# Altium schematic symbol library R E24 0603 Yageo RC Series.SchLib: 174 symbols (part 2 of 3)
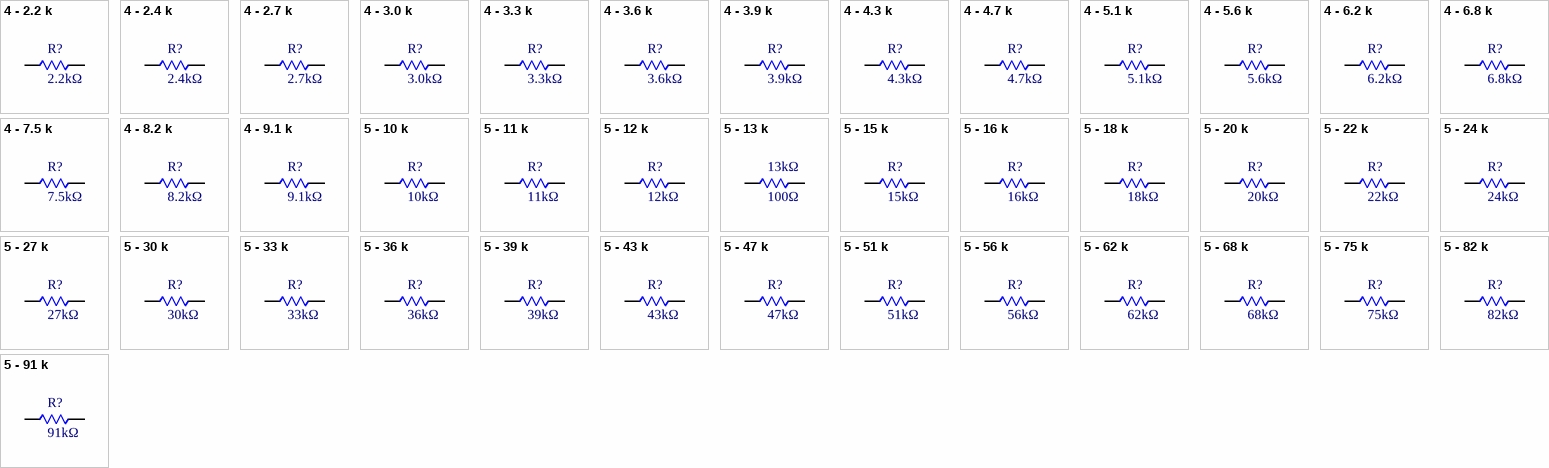
[diagram p5: symbols 4 - 2.2 k to 5 - 91 k]

## 4 - 3.6 k
designator R?, comment 3.6kΩ
RES SMD 3.6K OHM 5% 1/10W 0603; MFG PN: RC0603JR-073K6L; MFG: Yageo; Power: 0.1W; Temp Coeff: ±100ppm/°C; Op Temp: -55°C ~ 155°C; Current (max): 5.27 mA; Voltage (max): 19.0 V; Resistance: 3.6 kOhms; Digi-Key PN: 311-3.6KGRCT-ND; Height: 0.55mm; Package: 0603; Composition: Thick Film; Tolerance: 5%; Series: RC; Mounting Type: Surface Mount; ComponentLink2Description: Datasheet; ComponentLink2URL: https://www.yageo.com/upload/media/product/productsearch/datasheet/rchip/PYu-RC_Group_51_RoHS_L_11.pdf
footprint 0603 - R (from Yageo)
pins: 1, 2

## 4 - 3.9 k
designator R?, comment 3.9kΩ
RES SMD 3.9K OHM 5% 1/10W 0603; MFG PN: RC0603JR-073K9L; MFG: Yageo; Power: 0.1W; Temp Coeff: ±100ppm/°C; Op Temp: -55°C ~ 155°C; Current (max): 5.06 mA; Voltage (max): 19.7 V; Resistance: 3.9 kOhms; Digi-Key PN: 311-3.9KGRCT-ND; Height: 0.55mm; Package: 0603; Composition: Thick Film; Tolerance: 5%; Series: RC; Mounting Type: Surface Mount; ComponentLink2Description: Datasheet; ComponentLink2URL: https://www.yageo.com/upload/media/product/productsearch/datasheet/rchip/PYu-RC_Group_51_RoHS_L_11.pdf
footprint 0603 - R (from Yageo)
pins: 1, 2

## 4 - 4.3 k
designator R?, comment 4.3kΩ
RES SMD 4.3K OHM 5% 1/10W 0603; MFG PN: RC0603JR-074K3L; MFG: Yageo; Power: 0.1W; Temp Coeff: ±100ppm/°C; Op Temp: -55°C ~ 155°C; Current (max): 4.82 mA; Voltage (max): 20.7 V; Resistance: 4.3 kOhms; Digi-Key PN: 311-4.3KGRCT-ND; Height: 0.55mm; Package: 0603; Composition: Thick Film; Tolerance: 5%; Series: RC; Mounting Type: Surface Mount; ComponentLink2Description: Datasheet; ComponentLink2URL: https://www.yageo.com/upload/media/product/productsearch/datasheet/rchip/PYu-RC_Group_51_RoHS_L_11.pdf
footprint 0603 - R (from Yageo)
pins: 1, 2

## 4 - 4.7 k
designator R?, comment 4.7kΩ
RES SMD 4.7K OHM 5% 1/10W 0603; MFG PN: RC0603JR-074K7L; MFG: Yageo; Power: 0.1W; Temp Coeff: ±100ppm/°C; Op Temp: -55°C ~ 155°C; Current (max): 4.61 mA; Voltage (max): 21.7 V; Resistance: 4.7 kOhms; Digi-Key PN: 311-4.7KGRCT-ND; Height: 0.55mm; Package: 0603; Composition: Thick Film; Tolerance: 5%; Series: RC; Mounting Type: Surface Mount; ComponentLink2Description: Datasheet; ComponentLink2URL: https://www.yageo.com/upload/media/product/productsearch/datasheet/rchip/PYu-RC_Group_51_RoHS_L_11.pdf
footprint 0603 - R (from Yageo)
pins: 1, 2

## 4 - 5.1 k
designator R?, comment 5.1kΩ
RES SMD 5.1K OHM 5% 1/10W 0603; MFG PN: RC0603JR-075K1L; MFG: Yageo; Power: 0.1W; Temp Coeff: ±100ppm/°C; Op Temp: -55°C ~ 155°C; Current (max): 4.43 mA; Voltage (max): 22.6 V; Resistance: 5.1 kOhms; Digi-Key PN: 311-5.1KGRCT-ND; Height: 0.55mm; Package: 0603; Composition: Thick Film; Tolerance: 5%; Series: RC; Mounting Type: Surface Mount; ComponentLink2Description: Datasheet; ComponentLink2URL: https://www.yageo.com/upload/media/product/productsearch/datasheet/rchip/PYu-RC_Group_51_RoHS_L_11.pdf
footprint 0603 - R (from Yageo)
pins: 1, 2

## 4 - 5.6 k
designator R?, comment 5.6kΩ
RES SMD 5.6K OHM 5% 1/10W 0603; MFG PN: RC0603JR-075K6L; MFG: Yageo; Power: 0.1W; Temp Coeff: ±100ppm/°C; Op Temp: -55°C ~ 155°C; Current (max): 4.23 mA; Voltage (max): 23.7 V; Resistance: 5.6 kOhms; Digi-Key PN: 311-5.6KGRCT-ND; Height: 0.55mm; Package: 0603; Composition: Thick Film; Tolerance: 5%; Series: RC; Mounting Type: Surface Mount; ComponentLink2Description: Datasheet; ComponentLink2URL: https://www.yageo.com/upload/media/product/productsearch/datasheet/rchip/PYu-RC_Group_51_RoHS_L_11.pdf
footprint 0603 - R (from Yageo)
pins: 1, 2

## 4 - 6.2 k
designator R?, comment 6.2kΩ
RES SMD 6.2K OHM 5% 1/10W 0603; MFG PN: RC0603JR-076K2L; MFG: Yageo; Power: 0.1W; Temp Coeff: ±100ppm/°C; Op Temp: -55°C ~ 155°C; Current (max): 4.02 mA; Voltage (max): 24.9 V; Resistance: 6.2 kOhms; Digi-Key PN: 311-6.2KGRCT-ND; Height: 0.55mm; Package: 0603; Composition: Thick Film; Tolerance: 5%; Series: RC; Mounting Type: Surface Mount; ComponentLink2Description: Datasheet; ComponentLink2URL: https://www.yageo.com/upload/media/product/productsearch/datasheet/rchip/PYu-RC_Group_51_RoHS_L_11.pdf
footprint 0603 - R (from Yageo)
pins: 1, 2

## 4 - 6.8 k
designator R?, comment 6.8kΩ
RES SMD 6.8K OHM 5% 1/10W 0603; MFG PN: RC0603JR-076K8L; MFG: Yageo; Power: 0.1W; Temp Coeff: ±100ppm/°C; Op Temp: -55°C ~ 155°C; Current (max): 3.83 mA; Voltage (max): 26.1 V; Resistance: 6.8 kOhms; Digi-Key PN: 311-6.8KGRCT-ND; Height: 0.55mm; Package: 0603; Composition: Thick Film; Tolerance: 5%; Series: RC; Mounting Type: Surface Mount; ComponentLink2Description: Datasheet; ComponentLink2URL: https://www.yageo.com/upload/media/product/productsearch/datasheet/rchip/PYu-RC_Group_51_RoHS_L_11.pdf
footprint 0603 - R (from Yageo)
pins: 1, 2

## 4 - 7.5 k
designator R?, comment 7.5kΩ
RES SMD 7.5K OHM 5% 1/10W 0603; MFG PN: RC0603JR-077K5L; MFG: Yageo; Power: 0.1W; Temp Coeff: ±100ppm/°C; Op Temp: -55°C ~ 155°C; Current (max): 3.65 mA; Voltage (max): 27.4 V; Resistance: 7.5 kOhms; Digi-Key PN: 311-7.5KGRCT-ND; Height: 0.55mm; Package: 0603; Composition: Thick Film; Tolerance: 5%; Series: RC; Mounting Type: Surface Mount; ComponentLink2Description: Datasheet; ComponentLink2URL: https://www.yageo.com/upload/media/product/productsearch/datasheet/rchip/PYu-RC_Group_51_RoHS_L_11.pdf
footprint 0603 - R (from Yageo)
pins: 1, 2

## 4 - 8.2 k
designator R?, comment 8.2kΩ
RES SMD 8.2K OHM 5% 1/10W 0603; MFG PN: RC0603JR-078K2L; MFG: Yageo; Power: 0.1W; Temp Coeff: ±200ppm/°C; Op Temp: -55°C ~ 155°C; Current (max): 3.49 mA; Voltage (max): 28.6 V; Resistance: 8.2 kOhms; Digi-Key PN: 311-8.2KGRCT-ND; Height: 0.55mm; Package: 0603; Composition: Thick Film; Tolerance: 5%; Series: RC; Mounting Type: Surface Mount; ComponentLink2Description: Datasheet; ComponentLink2URL: https://www.yageo.com/upload/media/product/productsearch/datasheet/rchip/PYu-RC_Group_51_RoHS_L_11.pdf
footprint 0603 - R (from Yageo)
pins: 1, 2

## 4 - 9.1 k
designator R?, comment 9.1kΩ
RES SMD 9.1K OHM 5% 1/10W 0603; MFG PN: RC0603JR-079K1L; MFG: Yageo; Power: 0.1W; Temp Coeff: ±200ppm/°C; Op Temp: -55°C ~ 155°C; Current (max): 3.31 mA; Voltage (max): 30.2 V; Resistance: 9.1 kOhms; Digi-Key PN: 311-9.1KGRCT-ND; Height: 0.55mm; Package: 0603; Composition: Thick Film; Tolerance: 5%; Series: RC; Mounting Type: Surface Mount; ComponentLink2Description: Datasheet; ComponentLink2URL: https://www.yageo.com/upload/media/product/productsearch/datasheet/rchip/PYu-RC_Group_51_RoHS_L_11.pdf
footprint 0603 - R (from Yageo)
pins: 1, 2

## 5 - 10 k
designator R?, comment 10kΩ
RES SMD 10K OHM 5% 1/10W 0603; MFG PN: RC0603JR-0710KL; MFG: Yageo; Power: 0.1W; Temp Coeff: ±200ppm/°C; Op Temp: -55°C ~ 155°C; Current (max): 3.16 mA; Voltage (max): 31.6 V; Resistance: 10 kOhms; Digi-Key PN: 311-10KGRCT-ND; Height: 0.55mm; Package: 0603; Composition: Thick Film; Tolerance: 5%; Series: RC; Mounting Type: Surface Mount; ComponentLink2Description: Datasheet; ComponentLink2URL: https://www.yageo.com/upload/media/product/productsearch/datasheet/rchip/PYu-RC_Group_51_RoHS_L_11.pdf
footprint 0603 - R (from Yageo)
pins: 1, 2

## 5 - 11 k
designator R?, comment 11kΩ
RES SMD 11K OHM 5% 1/10W 0603; MFG PN: RC0603JR-0711KL; MFG: Yageo; Power: 0.1W; Temp Coeff: ±200ppm/°C; Op Temp: -55°C ~ 155°C; Current (max): 3.02 mA; Voltage (max): 33.2 V; Resistance: 11 kOhms; Digi-Key PN: 311-11KGRCT-ND; Height: 0.55mm; Package: 0603; Composition: Thick Film; Tolerance: 5%; Series: RC; Mounting Type: Surface Mount; ComponentLink2Description: Datasheet; ComponentLink2URL: https://www.yageo.com/upload/media/product/productsearch/datasheet/rchip/PYu-RC_Group_51_RoHS_L_11.pdf
footprint 0603 - R (from Yageo)
pins: 1, 2

## 5 - 12 k
designator R?, comment 12kΩ
RES SMD 12K OHM 5% 1/10W 0603; MFG PN: RC0603JR-0712KL; MFG: Yageo; Power: 0.1W; Temp Coeff: ±200ppm/°C; Op Temp: -55°C ~ 155°C; Current (max): 2.89 mA; Voltage (max): 34.6 V; Resistance: 12 kOhms; Digi-Key PN: 311-12KGRCT-ND; Height: 0.55mm; Package: 0603; Composition: Thick Film; Tolerance: 5%; Series: RC; Mounting Type: Surface Mount; ComponentLink2Description: Datasheet; ComponentLink2URL: https://www.yageo.com/upload/media/product/productsearch/datasheet/rchip/PYu-RC_Group_51_RoHS_L_11.pdf
footprint 0603 - R (from Yageo)
pins: 1, 2

## 5 - 13 k
designator 13kΩ, comment 100Ω
RES SMD 13K OHM 5% 1/10W 0603; MFG PN: RC0603JR-0713KL; MFG: Yageo; Power: 0.1W; Temp Coeff: ±200ppm/°C; Op Temp: -55°C ~ 155°C; Current (max): 2.77 mA; Voltage (max): 36.1 V; Resistance: 13 kOhms; Digi-Key PN: 311-13KGRCT-ND; Height: 0.55mm; Package: 0603; Composition: Thick Film; Tolerance: 5%; Series: RC; Mounting Type: Surface Mount; ComponentLink2Description: Datasheet; ComponentLink2URL: https://www.yageo.com/upload/media/product/productsearch/datasheet/rchip/PYu-RC_Group_51_RoHS_L_11.pdf
footprint 0603 - R (from Yageo)
pins: 1, 2

## 5 - 15 k
designator R?, comment 15kΩ
RES SMD 15K OHM 5% 1/10W 0603; MFG PN: RC0603JR-0715KL; MFG: Yageo; Power: 0.1W; Temp Coeff: ±200ppm/°C; Op Temp: -55°C ~ 155°C; Current (max): 2.58 mA; Voltage (max): 38.7 V; Resistance: 15 kOhms; Digi-Key PN: 311-15KGRCT-ND; Height: 0.55mm; Package: 0603; Composition: Thick Film; Tolerance: 5%; Series: RC; Mounting Type: Surface Mount; ComponentLink2Description: Datasheet; ComponentLink2URL: https://www.yageo.com/upload/media/product/productsearch/datasheet/rchip/PYu-RC_Group_51_RoHS_L_11.pdf
footprint 0603 - R (from Yageo)
pins: 1, 2

## 5 - 16 k
designator R?, comment 16kΩ
RES SMD 16K OHM 5% 1/10W 0603; MFG PN: RC0603JR-0716KL; MFG: Yageo; Power: 0.1W; Temp Coeff: ±200ppm/°C; Op Temp: -55°C ~ 155°C; Current (max): 2.50 mA; Voltage (max): 40.0 V; Resistance: 16 kOhms; Digi-Key PN: 311-16KGRCT-ND; Height: 0.55mm; Package: 0603; Composition: Thick Film; Tolerance: 5%; Series: RC; Mounting Type: Surface Mount; ComponentLink2Description: Datasheet; ComponentLink2URL: https://www.yageo.com/upload/media/product/productsearch/datasheet/rchip/PYu-RC_Group_51_RoHS_L_11.pdf
footprint 0603 - R (from Yageo)
pins: 1, 2

## 5 - 18 k
designator R?, comment 18kΩ
RES SMD 18K OHM 5% 1/10W 0603; MFG PN: RC0603JR-0718KL; MFG: Yageo; Power: 0.1W; Temp Coeff: ±200ppm/°C; Op Temp: -55°C ~ 155°C; Current (max): 2.36 mA; Voltage (max): 42.4 V; Resistance: 18 kOhms; Digi-Key PN: 311-18KGRCT-ND; Height: 0.55mm; Package: 0603; Composition: Thick Film; Tolerance: 5%; Series: RC; Mounting Type: Surface Mount; ComponentLink2Description: Datasheet; ComponentLink2URL: https://www.yageo.com/upload/media/product/productsearch/datasheet/rchip/PYu-RC_Group_51_RoHS_L_11.pdf
footprint 0603 - R (from Yageo)
pins: 1, 2

## 5 - 20 k
designator R?, comment 20kΩ
RES SMD 20K OHM 5% 1/10W 0603; MFG PN: RC0603JR-0720KL; MFG: Yageo; Power: 0.1W; Temp Coeff: ±200ppm/°C; Op Temp: -55°C ~ 155°C; Current (max): 2.24 mA; Voltage (max): 44.7 V; Resistance: 20 kOhms; Digi-Key PN: 311-20KGRCT-ND; Height: 0.55mm; Package: 0603; Composition: Thick Film; Tolerance: 5%; Series: RC; Mounting Type: Surface Mount; ComponentLink2Description: Datasheet; ComponentLink2URL: https://www.yageo.com/upload/media/product/productsearch/datasheet/rchip/PYu-RC_Group_51_RoHS_L_11.pdf
footprint 0603 - R (from Yageo)
pins: 1, 2

## 5 - 22 k
designator R?, comment 22kΩ
RES SMD 22K OHM 5% 1/10W 0603; MFG PN: RC0603JR-0722KL; MFG: Yageo; Power: 0.1W; Temp Coeff: ±200ppm/°C; Op Temp: -55°C ~ 155°C; Current (max): 2.13 mA; Voltage (max): 46.9 V; Resistance: 22 kOhms; Digi-Key PN: 311-22KGRCT-ND; Height: 0.55mm; Package: 0603; Composition: Thick Film; Tolerance: 5%; Series: RC; Mounting Type: Surface Mount; ComponentLink2Description: Datasheet; ComponentLink2URL: https://www.yageo.com/upload/media/product/productsearch/datasheet/rchip/PYu-RC_Group_51_RoHS_L_11.pdf
footprint 0603 - R (from Yageo)
pins: 1, 2

## 5 - 24 k
designator R?, comment 24kΩ
RES SMD 24K OHM 5% 1/10W 0603; MFG PN: RC0603JR-0724KL; MFG: Yageo; Power: 0.1W; Temp Coeff: ±200ppm/°C; Op Temp: -55°C ~ 155°C; Current (max): 2.04 mA; Voltage (max): 49.0 V; Resistance: 24 kOhms; Digi-Key PN: 311-24KGRCT-ND; Height: 0.55mm; Package: 0603; Composition: Thick Film; Tolerance: 5%; Series: RC; Mounting Type: Surface Mount; ComponentLink2Description: Datasheet; ComponentLink2URL: https://www.yageo.com/upload/media/product/productsearch/datasheet/rchip/PYu-RC_Group_51_RoHS_L_11.pdf
footprint 0603 - R (from Yageo)
pins: 1, 2

## 5 - 27 k
designator R?, comment 27kΩ
RES SMD 27K OHM 5% 1/10W 0603; MFG PN: RC0603JR-0727KL; MFG: Yageo; Power: 0.1W; Temp Coeff: ±200ppm/°C; Op Temp: -55°C ~ 155°C; Current (max): 1.92 mA; Voltage (max): 52.0 V; Resistance: 27 kOhms; Digi-Key PN: 311-27KGRCT-ND; Height: 0.55mm; Package: 0603; Composition: Thick Film; Tolerance: 5%; Series: RC; Mounting Type: Surface Mount; ComponentLink2Description: Datasheet; ComponentLink2URL: https://www.yageo.com/upload/media/product/productsearch/datasheet/rchip/PYu-RC_Group_51_RoHS_L_11.pdf
footprint 0603 - R (from Yageo)
pins: 1, 2

## 5 - 30 k
designator R?, comment 30kΩ
RES SMD 30K OHM 5% 1/10W 0603; MFG PN: RC0603JR-0730KL; MFG: Yageo; Power: 0.1W; Temp Coeff: ±200ppm/°C; Op Temp: -55°C ~ 155°C; Current (max): 1.83 mA; Voltage (max): 54.8 V; Resistance: 30 kOhms; Digi-Key PN: 311-30KGRCT-ND; Height: 0.55mm; Package: 0603; Composition: Thick Film; Tolerance: 5%; Series: RC; Mounting Type: Surface Mount; ComponentLink2Description: Datasheet; ComponentLink2URL: https://www.yageo.com/upload/media/product/productsearch/datasheet/rchip/PYu-RC_Group_51_RoHS_L_11.pdf
footprint 0603 - R (from Yageo)
pins: 1, 2

## 5 - 33 k
designator R?, comment 33kΩ
RES SMD 33K OHM 5% 1/10W 0603; MFG PN: RC0603JR-0733KL; MFG: Yageo; Power: 0.1W; Temp Coeff: ±200ppm/°C; Op Temp: -55°C ~ 155°C; Current (max): 1.74 mA; Voltage (max): 57.4 V; Resistance: 33 kOhms; Digi-Key PN: 311-33KGRCT-ND; Height: 0.55mm; Package: 0603; Composition: Thick Film; Tolerance: 5%; Series: RC; Mounting Type: Surface Mount; ComponentLink2Description: Datasheet; ComponentLink2URL: https://www.yageo.com/upload/media/product/productsearch/datasheet/rchip/PYu-RC_Group_51_RoHS_L_11.pdf
footprint 0603 - R (from Yageo)
pins: 1, 2

## 5 - 36 k
designator R?, comment 36kΩ
RES SMD 36K OHM 5% 1/10W 0603; MFG PN: RC0603JR-0736KL; MFG: Yageo; Power: 0.1W; Temp Coeff: ±200ppm/°C; Op Temp: -55°C ~ 155°C; Current (max): 1.67 mA; Voltage (max): 60.0 V; Resistance: 36 kOhms; Digi-Key PN: 311-36KGRCT-ND; Height: 0.55mm; Package: 0603; Composition: Thick Film; Tolerance: 5%; Series: RC; Mounting Type: Surface Mount; ComponentLink2Description: Datasheet; ComponentLink2URL: https://www.yageo.com/upload/media/product/productsearch/datasheet/rchip/PYu-RC_Group_51_RoHS_L_11.pdf
footprint 0603 - R (from Yageo)
pins: 1, 2

## 5 - 39 k
designator R?, comment 39kΩ
RES SMD 39K OHM 5% 1/10W 0603; MFG PN: RC0603JR-0739KL; MFG: Yageo; Power: 0.1W; Temp Coeff: ±200ppm/°C; Op Temp: -55°C ~ 155°C; Current (max): 1.60 mA; Voltage (max): 62.4 V; Resistance: 39 kOhms; Digi-Key PN: 311-39KGRCT-ND; Height: 0.55mm; Package: 0603; Composition: Thick Film; Tolerance: 5%; Series: RC; Mounting Type: Surface Mount; ComponentLink2Description: Datasheet; ComponentLink2URL: https://www.yageo.com/upload/media/product/productsearch/datasheet/rchip/PYu-RC_Group_51_RoHS_L_11.pdf
footprint 0603 - R (from Yageo)
pins: 1, 2

## 5 - 43 k
designator R?, comment 43kΩ
RES SMD 43K OHM 5% 1/10W 0603; MFG PN: RC0603JR-0743KL; MFG: Yageo; Power: 0.1W; Temp Coeff: ±200ppm/°C; Op Temp: -55°C ~ 155°C; Current (max): 1.52 mA; Voltage (max): 65.6 V; Resistance: 43 kOhms; Digi-Key PN: 311-43KGRCT-ND; Height: 0.55mm; Package: 0603; Composition: Thick Film; Tolerance: 5%; Series: RC; Mounting Type: Surface Mount; ComponentLink2Description: Datasheet; ComponentLink2URL: https://www.yageo.com/upload/media/product/productsearch/datasheet/rchip/PYu-RC_Group_51_RoHS_L_11.pdf
footprint 0603 - R (from Yageo)
pins: 1, 2

## 5 - 47 k
designator R?, comment 47kΩ
RES SMD 47K OHM 5% 1/10W 0603; MFG PN: RC0603JR-0747KL; MFG: Yageo; Power: 0.1W; Temp Coeff: ±200ppm/°C; Op Temp: -55°C ~ 155°C; Current (max): 1.46 mA; Voltage (max): 68.6 V; Resistance: 47 kOhms; Digi-Key PN: 311-47KGRCT-ND; Height: 0.55mm; Package: 0603; Composition: Thick Film; Tolerance: 5%; Series: RC; Mounting Type: Surface Mount; ComponentLink2Description: Datasheet; ComponentLink2URL: https://www.yageo.com/upload/media/product/productsearch/datasheet/rchip/PYu-RC_Group_51_RoHS_L_11.pdf
footprint 0603 - R (from Yageo)
pins: 1, 2

## 5 - 51 k
designator R?, comment 51kΩ
RES SMD 51K OHM 5% 1/10W 0603; MFG PN: RC0603JR-0751KL; MFG: Yageo; Power: 0.1W; Temp Coeff: ±200ppm/°C; Op Temp: -55°C ~ 155°C; Current (max): 1.40 mA; Voltage (max): 71.4 V; Resistance: 51 kOhms; Digi-Key PN: 311-51KGRCT-ND; Height: 0.55mm; Package: 0603; Composition: Thick Film; Tolerance: 5%; Series: RC; Mounting Type: Surface Mount; ComponentLink2Description: Datasheet; ComponentLink2URL: https://www.yageo.com/upload/media/product/productsearch/datasheet/rchip/PYu-RC_Group_51_RoHS_L_11.pdf
footprint 0603 - R (from Yageo)
pins: 1, 2

## 5 - 56 k
designator R?, comment 56kΩ
RES SMD 56K OHM 5% 1/10W 0603; MFG PN: RC0603JR-0756KL; MFG: Yageo; Power: 0.1W; Temp Coeff: ±200ppm/°C; Op Temp: -55°C ~ 155°C; Current (max): 1.34 mA; Voltage (max): 74.8 V; Resistance: 56 kOhms; Digi-Key PN: 311-56KGRCT-ND; Height: 0.55mm; Package: 0603; Composition: Thick Film; Tolerance: 5%; Series: RC; Mounting Type: Surface Mount; ComponentLink2Description: Datasheet; ComponentLink2URL: https://www.yageo.com/upload/media/product/productsearch/datasheet/rchip/PYu-RC_Group_51_RoHS_L_11.pdf
footprint 0603 - R (from Yageo)
pins: 1, 2

## 5 - 62 k
designator R?, comment 62kΩ
RES SMD 62K OHM 5% 1/10W 0603; MFG PN: RC0603JR-0762KL; MFG: Yageo; Power: 0.1W; Temp Coeff: ±200ppm/°C; Op Temp: -55°C ~ 155°C; Current (max): 1.27 mA; Voltage (max): 78.7 V; Resistance: 62 kOhms; Digi-Key PN: 311-62KGRCT-ND; Height: 0.55mm; Package: 0603; Composition: Thick Film; Tolerance: 5%; Series: RC; Mounting Type: Surface Mount; ComponentLink2Description: Datasheet; ComponentLink2URL: https://www.yageo.com/upload/media/product/productsearch/datasheet/rchip/PYu-RC_Group_51_RoHS_L_11.pdf
footprint 0603 - R (from Yageo)
pins: 1, 2

## 5 - 68 k
designator R?, comment 68kΩ
RES SMD 68K OHM 5% 1/10W 0603; MFG PN: RC0603JR-0768KL; MFG: Yageo; Power: 0.1W; Temp Coeff: ±200ppm/°C; Op Temp: -55°C ~ 155°C; Current (max): 1.21 mA; Voltage (max): 82.5 V; Resistance: 68 kOhms; Digi-Key PN: 311-68KGRCT-ND; Height: 0.55mm; Package: 0603; Composition: Thick Film; Tolerance: 5%; Series: RC; Mounting Type: Surface Mount; ComponentLink2Description: Datasheet; ComponentLink2URL: https://www.yageo.com/upload/media/product/productsearch/datasheet/rchip/PYu-RC_Group_51_RoHS_L_11.pdf
footprint 0603 - R (from Yageo)
pins: 1, 2

## 5 - 75 k
designator R?, comment 75kΩ
RES SMD 75K OHM 5% 1/10W 0603; MFG PN: RC0603JR-0775KL; MFG: Yageo; Power: 0.1W; Temp Coeff: ±200ppm/°C; Op Temp: -55°C ~ 155°C; Current (max): 1.15 mA; Voltage (max): 86.6 V; Resistance: 75 kOhms; Digi-Key PN: 311-75KGRCT-ND; Height: 0.55mm; Package: 0603; Composition: Thick Film; Tolerance: 5%; Series: RC; Mounting Type: Surface Mount; ComponentLink2Description: Datasheet; ComponentLink2URL: https://www.yageo.com/upload/media/product/productsearch/datasheet/rchip/PYu-RC_Group_51_RoHS_L_11.pdf
footprint 0603 - R (from Yageo)
pins: 1, 2

## 5 - 82 k
designator R?, comment 82kΩ
RES SMD 82K OHM 5% 1/10W 0603; MFG PN: RC0603JR-0782KL; MFG: Yageo; Power: 0.1W; Temp Coeff: ±200ppm/°C; Op Temp: -55°C ~ 155°C; Current (max): 1.10 mA; Voltage (max): 90.6 V; Resistance: 82 kOhms; Digi-Key PN: 311-82KGRCT-ND; Height: 0.55mm; Package: 0603; Composition: Thick Film; Tolerance: 5%; Series: RC; Mounting Type: Surface Mount; ComponentLink2Description: Datasheet; ComponentLink2URL: https://www.yageo.com/upload/media/product/productsearch/datasheet/rchip/PYu-RC_Group_51_RoHS_L_11.pdf
footprint 0603 - R (from Yageo)
pins: 1, 2

## 5 - 91 k
designator R?, comment 91kΩ
RES SMD 91K OHM 5% 1/10W 0603; MFG PN: RC0603JR-0791KL; MFG: Yageo; Power: 0.1W; Temp Coeff: ±200ppm/°C; Op Temp: -55°C ~ 155°C; Current (max): 1.05 mA; Voltage (max): 95.4 V; Resistance: 91 kOhms; Digi-Key PN: 311-91KGRCT-ND; Height: 0.55mm; Package: 0603; Composition: Thick Film; Tolerance: 5%; Series: RC; Mounting Type: Surface Mount; ComponentLink2Description: Datasheet; ComponentLink2URL: https://www.yageo.com/upload/media/product/productsearch/datasheet/rchip/PYu-RC_Group_51_RoHS_L_11.pdf
footprint 0603 - R (from Yageo)
pins: 1, 2

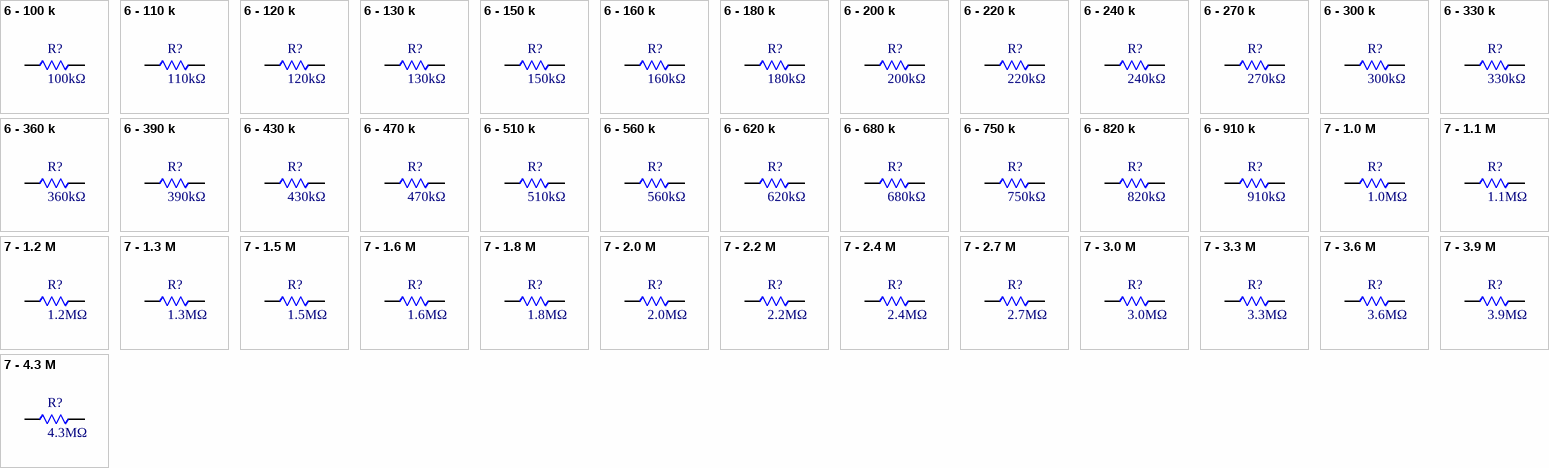
[diagram p3: symbols 6 - 100 k to 7 - 4.3 M]

## 6 - 100 k
designator R?, comment 100kΩ
RES SMD 100K OHM 5% 1/10W 0603; MFG PN: RC0603JR-07100KL; MFG: Yageo; Power: 0.1W; Temp Coeff: ±100ppm/°C; Op Temp: -55°C ~ 155°C; Current (max): 1.00 mA; Voltage (max): 100 V; Resistance: 100 kOhms; Digi-Key PN: 311-100KGRCT-ND; Height: 0.55mm; Package: 0603; Composition: Thick Film; Tolerance: 5%; Series: RC; Mounting Type: Surface Mount; ComponentLink2Description: Datasheet; ComponentLink2URL: https://www.yageo.com/upload/media/product/productsearch/datasheet/rchip/PYu-RC_Group_51_RoHS_L_11.pdf
footprint 0603 - R (from Yageo)
pins: 1, 2

## 6 - 110 k
designator R?, comment 110kΩ
RES SMD 110K OHM 5% 1/10W 0603; MFG PN: RC0603JR-07110KL; MFG: Yageo; Power: 0.1W; Temp Coeff: ±100ppm/°C; Op Temp: -55°C ~ 155°C; Current (max): 953 uA; Voltage (max): 105 V; Resistance: 110 kOhms; Digi-Key PN: 311-110KGRCT-ND; Height: 0.55mm; Package: 0603; Composition: Thick Film; Tolerance: 5%; Series: RC; Mounting Type: Surface Mount; ComponentLink2Description: Datasheet; ComponentLink2URL: https://www.yageo.com/upload/media/product/productsearch/datasheet/rchip/PYu-RC_Group_51_RoHS_L_11.pdf
footprint 0603 - R (from Yageo)
pins: 1, 2

## 6 - 120 k
designator R?, comment 120kΩ
RES SMD 120K OHM 5% 1/10W 0603; MFG PN: RC0603JR-07120KL; MFG: Yageo; Power: 0.1W; Temp Coeff: ±100ppm/°C; Op Temp: -55°C ~ 155°C; Current (max): 913 uA; Voltage (max): 110 V; Resistance: 120 kOhms; Digi-Key PN: 311-120KGRCT-ND; Height: 0.55mm; Package: 0603; Composition: Thick Film; Tolerance: 5%; Series: RC; Mounting Type: Surface Mount; ComponentLink2Description: Datasheet; ComponentLink2URL: https://www.yageo.com/upload/media/product/productsearch/datasheet/rchip/PYu-RC_Group_51_RoHS_L_11.pdf
footprint 0603 - R (from Yageo)
pins: 1, 2

## 6 - 130 k
designator R?, comment 130kΩ
RES SMD 130K OHM 5% 1/10W 0603; MFG PN: RC0603JR-07130KL; MFG: Yageo; Power: 0.1W; Temp Coeff: ±100ppm/°C; Op Temp: -55°C ~ 155°C; Current (max): 877 uA; Voltage (max): 114 V; Resistance: 130 kOhms; Digi-Key PN: 311-130KGRCT-ND; Height: 0.55mm; Package: 0603; Composition: Thick Film; Tolerance: 5%; Series: RC; Mounting Type: Surface Mount; ComponentLink2Description: Datasheet; ComponentLink2URL: https://www.yageo.com/upload/media/product/productsearch/datasheet/rchip/PYu-RC_Group_51_RoHS_L_11.pdf
footprint 0603 - R (from Yageo)
pins: 1, 2

## 6 - 150 k
designator R?, comment 150kΩ
RES SMD 150K OHM 5% 1/10W 0603; MFG PN: RC0603JR-07150KL; MFG: Yageo; Power: 0.1W; Temp Coeff: ±100ppm/°C; Op Temp: -55°C ~ 155°C; Current (max): 816 uA; Voltage (max): 122 V; Resistance: 150 kOhms; Digi-Key PN: 311-150KGRCT-ND; Height: 0.55mm; Package: 0603; Composition: Thick Film; Tolerance: 5%; Series: RC; Mounting Type: Surface Mount; ComponentLink2Description: Datasheet; ComponentLink2URL: https://www.yageo.com/upload/media/product/productsearch/datasheet/rchip/PYu-RC_Group_51_RoHS_L_11.pdf
footprint 0603 - R (from Yageo)
pins: 1, 2

## 6 - 160 k
designator R?, comment 160kΩ
RES SMD 160K OHM 5% 1/10W 0603; MFG PN: RC0603JR-07160KL; MFG: Yageo; Power: 0.1W; Temp Coeff: ±100ppm/°C; Op Temp: -55°C ~ 155°C; Current (max): 791 uA; Voltage (max): 126 V; Resistance: 160 kOhms; Digi-Key PN: 311-160KGRCT-ND; Height: 0.55mm; Package: 0603; Composition: Thick Film; Tolerance: 5%; Series: RC; Mounting Type: Surface Mount; ComponentLink2Description: Datasheet; ComponentLink2URL: https://www.yageo.com/upload/media/product/productsearch/datasheet/rchip/PYu-RC_Group_51_RoHS_L_11.pdf
footprint 0603 - R (from Yageo)
pins: 1, 2

## 6 - 180 k
designator R?, comment 180kΩ
RES SMD 180K OHM 5% 1/10W 0603; MFG PN: RC0603JR-07180KL; MFG: Yageo; Power: 0.1W; Temp Coeff: ±100ppm/°C; Op Temp: -55°C ~ 155°C; Current (max): 745 uA; Voltage (max): 134 V; Resistance: 180 kOhms; Digi-Key PN: 311-180KGRCT-ND; Height: 0.55mm; Package: 0603; Composition: Thick Film; Tolerance: 5%; Series: RC; Mounting Type: Surface Mount; ComponentLink2Description: Datasheet; ComponentLink2URL: https://www.yageo.com/upload/media/product/productsearch/datasheet/rchip/PYu-RC_Group_51_RoHS_L_11.pdf
footprint 0603 - R (from Yageo)
pins: 1, 2

## 6 - 200 k
designator R?, comment 200kΩ
RES SMD 200K OHM 5% 1/10W 0603; MFG PN: RC0603JR-07200KL; MFG: Yageo; Power: 0.1W; Temp Coeff: ±100ppm/°C; Op Temp: -55°C ~ 155°C; Current (max): 707 uA; Voltage (max): 141 V; Resistance: 200 kOhms; Digi-Key PN: 311-200KGRCT-ND; Height: 0.55mm; Package: 0603; Composition: Thick Film; Tolerance: 5%; Series: RC; Mounting Type: Surface Mount; ComponentLink2Description: Datasheet; ComponentLink2URL: https://www.yageo.com/upload/media/product/productsearch/datasheet/rchip/PYu-RC_Group_51_RoHS_L_11.pdf
footprint 0603 - R (from Yageo)
pins: 1, 2

## 6 - 220 k
designator R?, comment 220kΩ
RES SMD 220K OHM 5% 1/10W 0603; MFG PN: RC0603JR-07220KL; MFG: Yageo; Power: 0.1W; Temp Coeff: ±100ppm/°C; Op Temp: -55°C ~ 155°C; Current (max): 674 uA; Voltage (max): 148 V; Resistance: 220 kOhms; Digi-Key PN: 311-220KGRCT-ND; Height: 0.55mm; Package: 0603; Composition: Thick Film; Tolerance: 5%; Series: RC; Mounting Type: Surface Mount; ComponentLink2Description: Datasheet; ComponentLink2URL: https://www.yageo.com/upload/media/product/productsearch/datasheet/rchip/PYu-RC_Group_51_RoHS_L_11.pdf
footprint 0603 - R (from Yageo)
pins: 1, 2

## 6 - 240 k
designator R?, comment 240kΩ
RES SMD 240K OHM 5% 1/10W 0603; MFG PN: RC0603JR-07240KL; MFG: Yageo; Power: 0.1W; Temp Coeff: ±100ppm/°C; Op Temp: -55°C ~ 155°C; Current (max): 645 uA; Voltage (max): 155 V; Resistance: 240 kOhms; Digi-Key PN: 311-240KGRCT-ND; Height: 0.55mm; Package: 0603; Composition: Thick Film; Tolerance: 5%; Series: RC; Mounting Type: Surface Mount; ComponentLink2Description: Datasheet; ComponentLink2URL: https://www.yageo.com/upload/media/product/productsearch/datasheet/rchip/PYu-RC_Group_51_RoHS_L_11.pdf
footprint 0603 - R (from Yageo)
pins: 1, 2

## 6 - 270 k
designator R?, comment 270kΩ
RES SMD 270K OHM 5% 1/10W 0603; MFG PN: RC0603JR-07270KL; MFG: Yageo; Power: 0.1W; Temp Coeff: ±100ppm/°C; Op Temp: -55°C ~ 155°C; Current (max): 609 uA; Voltage (max): 164 V; Resistance: 270 kOhms; Digi-Key PN: 311-270KGRCT-ND; Height: 0.55mm; Package: 0603; Composition: Thick Film; Tolerance: 5%; Series: RC; Mounting Type: Surface Mount; ComponentLink2Description: Datasheet; ComponentLink2URL: https://www.yageo.com/upload/media/product/productsearch/datasheet/rchip/PYu-RC_Group_51_RoHS_L_11.pdf
footprint 0603 - R (from Yageo)
pins: 1, 2

## 6 - 300 k
designator R?, comment 300kΩ
RES SMD 300K OHM 5% 1/10W 0603; MFG PN: RC0603JR-07300KL; MFG: Yageo; Power: 0.1W; Temp Coeff: ±100ppm/°C; Op Temp: -55°C ~ 155°C; Current (max): 577 uA; Voltage (max): 173 V; Resistance: 300 kOhms; Digi-Key PN: 311-300KGRCT-ND; Height: 0.55mm; Package: 0603; Composition: Thick Film; Tolerance: 5%; Series: RC; Mounting Type: Surface Mount; ComponentLink2Description: Datasheet; ComponentLink2URL: https://www.yageo.com/upload/media/product/productsearch/datasheet/rchip/PYu-RC_Group_51_RoHS_L_11.pdf
footprint 0603 - R (from Yageo)
pins: 1, 2

## 6 - 330 k
designator R?, comment 330kΩ
RES SMD 330K OHM 5% 1/10W 0603; MFG PN: RC0603JR-07330KL; MFG: Yageo; Power: 0.1W; Temp Coeff: ±100ppm/°C; Op Temp: -55°C ~ 155°C; Current (max): 550 uA; Voltage (max): 182 V; Resistance: 330 kOhms; Digi-Key PN: 311-330KGRCT-ND; Height: 0.55mm; Package: 0603; Composition: Thick Film; Tolerance: 5%; Series: RC; Mounting Type: Surface Mount; ComponentLink2Description: Datasheet; ComponentLink2URL: https://www.yageo.com/upload/media/product/productsearch/datasheet/rchip/PYu-RC_Group_51_RoHS_L_11.pdf
footprint 0603 - R (from Yageo)
pins: 1, 2

## 6 - 360 k
designator R?, comment 360kΩ
RES SMD 360K OHM 5% 1/10W 0603; MFG PN: RC0603JR-07360KL; MFG: Yageo; Power: 0.1W; Temp Coeff: ±100ppm/°C; Op Temp: -55°C ~ 155°C; Current (max): 527 uA; Voltage (max): 190 V; Resistance: 360 kOhms; Digi-Key PN: 311-360KGRCT-ND; Height: 0.55mm; Package: 0603; Composition: Thick Film; Tolerance: 5%; Series: RC; Mounting Type: Surface Mount; ComponentLink2Description: Datasheet; ComponentLink2URL: https://www.yageo.com/upload/media/product/productsearch/datasheet/rchip/PYu-RC_Group_51_RoHS_L_11.pdf
footprint 0603 - R (from Yageo)
pins: 1, 2

## 6 - 390 k
designator R?, comment 390kΩ
RES SMD 390K OHM 5% 1/10W 0603; MFG PN: RC0603JR-07390KL; MFG: Yageo; Power: 0.1W; Temp Coeff: ±100ppm/°C; Op Temp: -55°C ~ 155°C; Current (max): 506 uA; Voltage (max): 197 V; Resistance: 390 kOhms; Digi-Key PN: 311-390KGRCT-ND; Height: 0.55mm; Package: 0603; Composition: Thick Film; Tolerance: 5%; Series: RC; Mounting Type: Surface Mount; ComponentLink2Description: Datasheet; ComponentLink2URL: https://www.yageo.com/upload/media/product/productsearch/datasheet/rchip/PYu-RC_Group_51_RoHS_L_11.pdf
footprint 0603 - R (from Yageo)
pins: 1, 2

## 6 - 430 k
designator R?, comment 430kΩ
RES SMD 430K OHM 5% 1/10W 0603; MFG PN: RC0603JR-07430KL; MFG: Yageo; Power: 0.1W; Temp Coeff: ±100ppm/°C; Op Temp: -55°C ~ 155°C; Current (max): 482 uA; Voltage (max): 207 V; Resistance: 430 kOhms; Digi-Key PN: 311-430KGRCT-ND; Height: 0.55mm; Package: 0603; Composition: Thick Film; Tolerance: 5%; Series: RC; Mounting Type: Surface Mount; ComponentLink2Description: Datasheet; ComponentLink2URL: https://www.yageo.com/upload/media/product/productsearch/datasheet/rchip/PYu-RC_Group_51_RoHS_L_11.pdf
footprint 0603 - R (from Yageo)
pins: 1, 2

## 6 - 470 k
designator R?, comment 470kΩ
RES SMD 470K OHM 5% 1/10W 0603; MFG PN: RC0603JR-07470KL; MFG: Yageo; Power: 0.1W; Temp Coeff: ±100ppm/°C; Op Temp: -55°C ~ 155°C; Current (max): 461 uA; Voltage (max): 217 V; Resistance: 470 kOhms; Digi-Key PN: 311-470KGRCT-ND; Height: 0.55mm; Package: 0603; Composition: Thick Film; Tolerance: 5%; Series: RC; Mounting Type: Surface Mount; ComponentLink2Description: Datasheet; ComponentLink2URL: https://www.yageo.com/upload/media/product/productsearch/datasheet/rchip/PYu-RC_Group_51_RoHS_L_11.pdf
footprint 0603 - R (from Yageo)
pins: 1, 2

## 6 - 510 k
designator R?, comment 510kΩ
RES SMD 510K OHM 5% 1/10W 0603; MFG PN: RC0603JR-07510KL; MFG: Yageo; Power: 0.1W; Temp Coeff: ±100ppm/°C; Op Temp: -55°C ~ 155°C; Current (max): 443 uA; Voltage (max): 226 V; Resistance: 510 kOhms; Digi-Key PN: 311-510KGRCT-ND; Height: 0.55mm; Package: 0603; Composition: Thick Film; Tolerance: 5%; Series: RC; Mounting Type: Surface Mount; ComponentLink2Description: Datasheet; ComponentLink2URL: https://www.yageo.com/upload/media/product/productsearch/datasheet/rchip/PYu-RC_Group_51_RoHS_L_11.pdf
footprint 0603 - R (from Yageo)
pins: 1, 2

## 6 - 560 k
designator R?, comment 560kΩ
RES SMD 560K OHM 5% 1/10W 0603; MFG PN: RC0603JR-07560KL; MFG: Yageo; Power: 0.1W; Temp Coeff: ±100ppm/°C; Op Temp: -55°C ~ 155°C; Current (max): 423 uA; Voltage (max): 237 V; Resistance: 560 kOhms; Digi-Key PN: 311-560KGRCT-ND; Height: 0.55mm; Package: 0603; Composition: Thick Film; Tolerance: 5%; Series: RC; Mounting Type: Surface Mount; ComponentLink2Description: Datasheet; ComponentLink2URL: https://www.yageo.com/upload/media/product/productsearch/datasheet/rchip/PYu-RC_Group_51_RoHS_L_11.pdf
footprint 0603 - R (from Yageo)
pins: 1, 2

## 6 - 620 k
designator R?, comment 620kΩ
RES SMD 620K OHM 5% 1/10W 0603; MFG PN: RC0603JR-07620KL; MFG: Yageo; Power: 0.1W; Temp Coeff: ±100ppm/°C; Op Temp: -55°C ~ 155°C; Current (max): 402 uA; Voltage (max): 249 V; Resistance: 620 kOhms; Digi-Key PN: 311-620KGRCT-ND; Height: 0.55mm; Package: 0603; Composition: Thick Film; Tolerance: 5%; Series: RC; Mounting Type: Surface Mount; ComponentLink2Description: Datasheet; ComponentLink2URL: https://www.yageo.com/upload/media/product/productsearch/datasheet/rchip/PYu-RC_Group_51_RoHS_L_11.pdf
footprint 0603 - R (from Yageo)
pins: 1, 2

## 6 - 680 k
designator R?, comment 680kΩ
RES SMD 680K OHM 5% 1/10W 0603; MFG PN: RC0603JR-07680KL; MFG: Yageo; Power: 0.1W; Temp Coeff: ±100ppm/°C; Op Temp: -55°C ~ 155°C; Current (max): 383 uA; Voltage (max): 261 V; Resistance: 680 kOhms; Digi-Key PN: 311-680KGRCT-ND; Height: 0.55mm; Package: 0603; Composition: Thick Film; Tolerance: 5%; Series: RC; Mounting Type: Surface Mount; ComponentLink2Description: Datasheet; ComponentLink2URL: https://www.yageo.com/upload/media/product/productsearch/datasheet/rchip/PYu-RC_Group_51_RoHS_L_11.pdf
footprint 0603 - R (from Yageo)
pins: 1, 2

## 6 - 750 k
designator R?, comment 750kΩ
RES SMD 750K OHM 5% 1/10W 0603; MFG PN: RC0603JR-07750KL; MFG: Yageo; Power: 0.1W; Temp Coeff: ±100ppm/°C; Op Temp: -55°C ~ 155°C; Current (max): 365 uA; Voltage (max): 274 V; Resistance: 750 kOhms; Digi-Key PN: 311-750KGRCT-ND; Height: 0.55mm; Package: 0603; Composition: Thick Film; Tolerance: 5%; Series: RC; Mounting Type: Surface Mount; ComponentLink2Description: Datasheet; ComponentLink2URL: https://www.yageo.com/upload/media/product/productsearch/datasheet/rchip/PYu-RC_Group_51_RoHS_L_11.pdf
footprint 0603 - R (from Yageo)
pins: 1, 2

## 6 - 820 k
designator R?, comment 820kΩ
RES SMD 820K OHM 5% 1/10W 0603; MFG PN: RC0603JR-07820KL; MFG: Yageo; Power: 0.1W; Temp Coeff: ±100ppm/°C; Op Temp: -55°C ~ 155°C; Current (max): 349 uA; Voltage (max): 286 V; Resistance: 820 kOhms; Digi-Key PN: 311-820KGRCT-ND; Height: 0.55mm; Package: 0603; Composition: Thick Film; Tolerance: 5%; Series: RC; Mounting Type: Surface Mount; ComponentLink2Description: Datasheet; ComponentLink2URL: https://www.yageo.com/upload/media/product/productsearch/datasheet/rchip/PYu-RC_Group_51_RoHS_L_11.pdf
footprint 0603 - R (from Yageo)
pins: 1, 2

## 6 - 910 k
designator R?, comment 910kΩ
RES SMD 910K OHM 5% 1/10W 0603; MFG PN: RC0603JR-07910KL; MFG: Yageo; Power: 0.1W; Temp Coeff: ±100ppm/°C; Op Temp: -55°C ~ 155°C; Current (max): 331 uA; Voltage (max): 302 V; Resistance: 910 kOhms; Digi-Key PN: 311-910KGRCT-ND; Height: 0.55mm; Package: 0603; Composition: Thick Film; Tolerance: 5%; Series: RC; Mounting Type: Surface Mount; ComponentLink2Description: Datasheet; ComponentLink2URL: https://www.yageo.com/upload/media/product/productsearch/datasheet/rchip/PYu-RC_Group_51_RoHS_L_11.pdf
footprint 0603 - R (from Yageo)
pins: 1, 2

## 7 - 1.0 M
designator R?, comment 1.0MΩ
RES SMD 1M OHM 5% 1/10W 0603; MFG PN: RC0603JR-071ML; MFG: Yageo; Power: 0.1W; Temp Coeff: ±100ppm/°C; Op Temp: -55°C ~ 155°C; Current (max): 316 uA; Voltage (max): 316 V; Resistance: 1 MOhms; Digi-Key PN: 311-1.0MGRCT-ND; Height: 0.55mm; Package: 0603; Composition: Thick Film; Tolerance: 5%; Series: RC; Mounting Type: Surface Mount; ComponentLink2Description: Datasheet; ComponentLink2URL: https://www.yageo.com/upload/media/product/productsearch/datasheet/rchip/PYu-RC_Group_51_RoHS_L_11.pdf
footprint 0603 - R (from Yageo)
pins: 1, 2

## 7 - 1.1 M
designator R?, comment 1.1MΩ
RES SMD 1.1M OHM 5% 1/10W 0603; MFG PN: RC0603JR-071M1L; MFG: Yageo; Power: 0.1W; Temp Coeff: ±100ppm/°C; Op Temp: -55°C ~ 155°C; Current (max): 302 uA; Voltage (max): 332 V; Resistance: 1.1 MOhms; Digi-Key PN: 311-1.1MGRCT-ND; Height: 0.55mm; Package: 0603; Composition: Thick Film; Tolerance: 5%; Series: RC; Mounting Type: Surface Mount; ComponentLink2Description: Datasheet; ComponentLink2URL: https://www.yageo.com/upload/media/product/productsearch/datasheet/rchip/PYu-RC_Group_51_RoHS_L_11.pdf
footprint 0603 - R (from Yageo)
pins: 1, 2

## 7 - 1.2 M
designator R?, comment 1.2MΩ
RES SMD 1.2M OHM 5% 1/10W 0603; MFG PN: RC0603JR-071M2L; MFG: Yageo; Power: 0.1W; Temp Coeff: ±100ppm/°C; Op Temp: -55°C ~ 155°C; Current (max): 289 uA; Voltage (max): 346 V; Resistance: 1.2 MOhms; Digi-Key PN: 311-1.2MGRCT-ND; Height: 0.55mm; Package: 0603; Composition: Thick Film; Tolerance: 5%; Series: RC; Mounting Type: Surface Mount; ComponentLink2Description: Datasheet; ComponentLink2URL: https://www.yageo.com/upload/media/product/productsearch/datasheet/rchip/PYu-RC_Group_51_RoHS_L_11.pdf
footprint 0603 - R (from Yageo)
pins: 1, 2

## 7 - 1.3 M
designator R?, comment 1.3MΩ
RES SMD 1.3M OHM 5% 1/10W 0603; MFG PN: RC0603JR-071M3L; MFG: Yageo; Power: 0.1W; Temp Coeff: ±100ppm/°C; Op Temp: -55°C ~ 155°C; Current (max): 277 uA; Voltage (max): 361 V; Resistance: 1.3 MOhms; Digi-Key PN: 311-1.3MGRCT-ND; Height: 0.55mm; Package: 0603; Composition: Thick Film; Tolerance: 5%; Series: RC; Mounting Type: Surface Mount; ComponentLink2Description: Datasheet; ComponentLink2URL: https://www.yageo.com/upload/media/product/productsearch/datasheet/rchip/PYu-RC_Group_51_RoHS_L_11.pdf
footprint 0603 - R (from Yageo)
pins: 1, 2

## 7 - 1.5 M
designator R?, comment 1.5MΩ
RES SMD 1.5M OHM 5% 1/10W 0603; MFG PN: RC0603JR-071M5L; MFG: Yageo; Power: 0.1W; Temp Coeff: ±100ppm/°C; Op Temp: -55°C ~ 155°C; Current (max): 258 uA; Voltage (max): 387 V; Resistance: 1.5 MOhms; Digi-Key PN: 311-1.5MGRCT-ND; Height: 0.55mm; Package: 0603; Composition: Thick Film; Tolerance: 5%; Series: RC; Mounting Type: Surface Mount; ComponentLink2Description: Datasheet; ComponentLink2URL: https://www.yageo.com/upload/media/product/productsearch/datasheet/rchip/PYu-RC_Group_51_RoHS_L_11.pdf
footprint 0603 - R (from Yageo)
pins: 1, 2

## 7 - 1.6 M
designator R?, comment 1.6MΩ
RES SMD 1.6M OHM 5% 1/10W 0603; MFG PN: RC0603JR-071M6L; MFG: Yageo; Power: 0.1W; Temp Coeff: ±100ppm/°C; Op Temp: -55°C ~ 155°C; Current (max): 250 uA; Voltage (max): 400 V; Resistance: 1.6 MOhms; Digi-Key PN: 311-1.6MGRCT-ND; Height: 0.55mm; Package: 0603; Composition: Thick Film; Tolerance: 5%; Series: RC; Mounting Type: Surface Mount; ComponentLink2Description: Datasheet; ComponentLink2URL: https://www.yageo.com/upload/media/product/productsearch/datasheet/rchip/PYu-RC_Group_51_RoHS_L_11.pdf
footprint 0603 - R (from Yageo)
pins: 1, 2

## 7 - 1.8 M
designator R?, comment 1.8MΩ
RES SMD 1.8M OHM 5% 1/10W 0603; MFG PN: RC0603JR-071M8L; MFG: Yageo; Power: 0.1W; Temp Coeff: ±100ppm/°C; Op Temp: -55°C ~ 155°C; Current (max): 236 uA; Voltage (max): 424 V; Resistance: 1.8 MOhms; Digi-Key PN: 311-1.8MGRCT-ND; Height: 0.55mm; Package: 0603; Composition: Thick Film; Tolerance: 5%; Series: RC; Mounting Type: Surface Mount; ComponentLink2Description: Datasheet; ComponentLink2URL: https://www.yageo.com/upload/media/product/productsearch/datasheet/rchip/PYu-RC_Group_51_RoHS_L_11.pdf
footprint 0603 - R (from Yageo)
pins: 1, 2

## 7 - 2.0 M
designator R?, comment 2.0MΩ
RES SMD 2M OHM 5% 1/10W 0603; MFG PN: RC0603JR-072ML; MFG: Yageo; Power: 0.1W; Temp Coeff: ±100ppm/°C; Op Temp: -55°C ~ 155°C; Current (max): 224 uA; Voltage (max): 447 V; Resistance: 2 MOhms; Digi-Key PN: 311-2.0MGRCT-ND; Height: 0.55mm; Package: 0603; Composition: Thick Film; Tolerance: 5%; Series: RC; Mounting Type: Surface Mount; ComponentLink2Description: Datasheet; ComponentLink2URL: https://www.yageo.com/upload/media/product/productsearch/datasheet/rchip/PYu-RC_Group_51_RoHS_L_11.pdf
footprint 0603 - R (from Yageo)
pins: 1, 2

## 7 - 2.2 M
designator R?, comment 2.2MΩ
RES SMD 2.2M OHM 5% 1/10W 0603; MFG PN: RC0603JR-072M2L; MFG: Yageo; Power: 0.1W; Temp Coeff: ±100ppm/°C; Op Temp: -55°C ~ 155°C; Current (max): 213 uA; Voltage (max): 469 V; Resistance: 2.2 MOhms; Digi-Key PN: 311-2.2MGRCT-ND; Height: 0.55mm; Package: 0603; Composition: Thick Film; Tolerance: 5%; Series: RC; Mounting Type: Surface Mount; ComponentLink2Description: Datasheet; ComponentLink2URL: https://www.yageo.com/upload/media/product/productsearch/datasheet/rchip/PYu-RC_Group_51_RoHS_L_11.pdf
footprint 0603 - R (from Yageo)
pins: 1, 2

## 7 - 2.4 M
designator R?, comment 2.4MΩ
RES SMD 2.4M OHM 5% 1/10W 0603; MFG PN: RC0603JR-072M4L; MFG: Yageo; Power: 0.1W; Temp Coeff: ±100ppm/°C; Op Temp: -55°C ~ 155°C; Current (max): 204 uA; Voltage (max): 490 V; Resistance: 2.4 MOhms; Digi-Key PN: 311-2.4MGRCT-ND; Height: 0.55mm; Package: 0603; Composition: Thick Film; Tolerance: 5%; Series: RC; Mounting Type: Surface Mount; ComponentLink2Description: Datasheet; ComponentLink2URL: https://www.yageo.com/upload/media/product/productsearch/datasheet/rchip/PYu-RC_Group_51_RoHS_L_11.pdf
footprint 0603 - R (from Yageo)
pins: 1, 2

## 7 - 2.7 M
designator R?, comment 2.7MΩ
RES SMD 2.7M OHM 5% 1/10W 0603; MFG PN: RC0603JR-072M7L; MFG: Yageo; Power: 0.1W; Temp Coeff: ±100ppm/°C; Op Temp: -55°C ~ 155°C; Current (max): 192 uA; Voltage (max): 520 V; Resistance: 2.7 MOhms; Digi-Key PN: 311-2.7MGRCT-ND; Height: 0.55mm; Package: 0603; Composition: Thick Film; Tolerance: 5%; Series: RC; Mounting Type: Surface Mount; ComponentLink2Description: Datasheet; ComponentLink2URL: https://www.yageo.com/upload/media/product/productsearch/datasheet/rchip/PYu-RC_Group_51_RoHS_L_11.pdf
footprint 0603 - R (from Yageo)
pins: 1, 2

## 7 - 3.0 M
designator R?, comment 3.0MΩ
RES SMD 3M OHM 5% 1/10W 0603; MFG PN: RC0603JR-073ML; MFG: Yageo; Power: 0.1W; Temp Coeff: ±100ppm/°C; Op Temp: -55°C ~ 155°C; Current (max): 183 uA; Voltage (max): 548 V; Resistance: 3 MOhms; Digi-Key PN: 311-3.0MGRCT-ND; Height: 0.55mm; Package: 0603; Composition: Thick Film; Tolerance: 5%; Series: RC; Mounting Type: Surface Mount; ComponentLink2Description: Datasheet; ComponentLink2URL: https://www.yageo.com/upload/media/product/productsearch/datasheet/rchip/PYu-RC_Group_51_RoHS_L_11.pdf
footprint 0603 - R (from Yageo)
pins: 1, 2

## 7 - 3.3 M
designator R?, comment 3.3MΩ
RES SMD 3.3M OHM 5% 1/10W 0603; MFG PN: RC0603JR-073M3L; MFG: Yageo; Power: 0.1W; Temp Coeff: ±100ppm/°C; Op Temp: -55°C ~ 155°C; Current (max): 174 uA; Voltage (max): 574 V; Resistance: 3.3 MOhms; Digi-Key PN: 311-3.3MGRCT-ND; Height: 0.55mm; Package: 0603; Composition: Thick Film; Tolerance: 5%; Series: RC; Mounting Type: Surface Mount; ComponentLink2Description: Datasheet; ComponentLink2URL: https://www.yageo.com/upload/media/product/productsearch/datasheet/rchip/PYu-RC_Group_51_RoHS_L_11.pdf
footprint 0603 - R (from Yageo)
pins: 1, 2

## 7 - 3.6 M
designator R?, comment 3.6MΩ
RES SMD 3.6M OHM 5% 1/10W 0603; MFG PN: RC0603JR-073M6L; MFG: Yageo; Power: 0.1W; Temp Coeff: ±100ppm/°C; Op Temp: -55°C ~ 155°C; Current (max): 167 uA; Voltage (max): 600 V; Resistance: 3.6 MOhms; Digi-Key PN: 311-3.6MGRCT-ND; Height: 0.55mm; Package: 0603; Composition: Thick Film; Tolerance: 5%; Series: RC; Mounting Type: Surface Mount; ComponentLink2Description: Datasheet; ComponentLink2URL: https://www.yageo.com/upload/media/product/productsearch/datasheet/rchip/PYu-RC_Group_51_RoHS_L_11.pdf
footprint 0603 - R (from Yageo)
pins: 1, 2

## 7 - 3.9 M
designator R?, comment 3.9MΩ
RES SMD 3.9M OHM 5% 1/10W 0603; MFG PN: RC0603JR-073M9L; MFG: Yageo; Power: 0.1W; Temp Coeff: ±100ppm/°C; Op Temp: -55°C ~ 155°C; Current (max): 160 uA; Voltage (max): 624 V; Resistance: 3.9 MOhms; Digi-Key PN: 311-3.9MGRCT-ND; Height: 0.55mm; Package: 0603; Composition: Thick Film; Tolerance: 5%; Series: RC; Mounting Type: Surface Mount; ComponentLink2Description: Datasheet; ComponentLink2URL: https://www.yageo.com/upload/media/product/productsearch/datasheet/rchip/PYu-RC_Group_51_RoHS_L_11.pdf
footprint 0603 - R (from Yageo)
pins: 1, 2

## 7 - 4.3 M
designator R?, comment 4.3MΩ
RES SMD 4.3M OHM 5% 1/10W 0603; MFG PN: RC0603JR-074M3L; MFG: Yageo; Power: 0.1W; Temp Coeff: ±100ppm/°C; Op Temp: -55°C ~ 155°C; Current (max): 152 uA; Voltage (max): 656 V; Resistance: 4.3 MOhms; Digi-Key PN: 311-4.3MGRCT-ND; Height: 0.55mm; Package: 0603; Composition: Thick Film; Tolerance: 5%; Series: RC; Mounting Type: Surface Mount; ComponentLink2Description: Datasheet; ComponentLink2URL: https://www.yageo.com/upload/media/product/productsearch/datasheet/rchip/PYu-RC_Group_51_RoHS_L_11.pdf
footprint 0603 - R (from Yageo)
pins: 1, 2

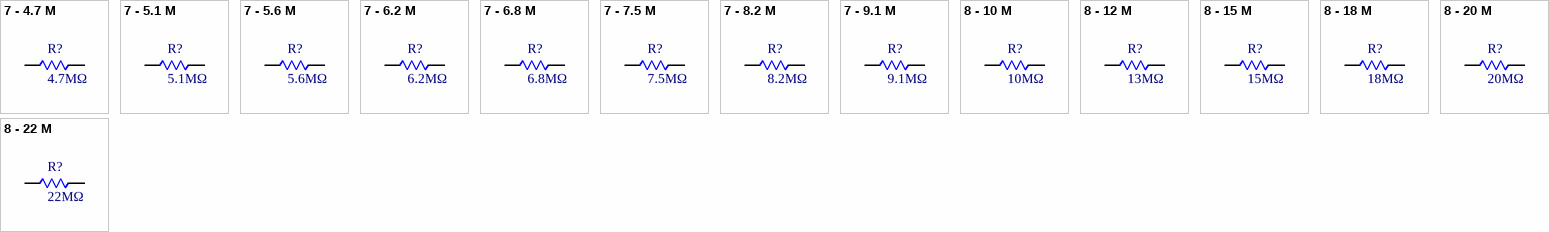
[diagram p4: symbols 7 - 4.7 M to 8 - 22 M]

## 7 - 4.7 M
designator R?, comment 4.7MΩ
RES SMD 4.7M OHM 5% 1/10W 0603; MFG PN: RC0603JR-074M7L; MFG: Yageo; Power: 0.1W; Temp Coeff: ±100ppm/°C; Op Temp: -55°C ~ 155°C; Current (max): 146 uA; Voltage (max): 686 V; Resistance: 4.7 MOhms; Digi-Key PN: 311-4.7MGRCT-ND; Height: 0.55mm; Package: 0603; Composition: Thick Film; Tolerance: 5%; Series: RC; Mounting Type: Surface Mount; ComponentLink2Description: Datasheet; ComponentLink2URL: https://www.yageo.com/upload/media/product/productsearch/datasheet/rchip/PYu-RC_Group_51_RoHS_L_11.pdf
footprint 0603 - R (from Yageo)
pins: 1, 2

## 7 - 5.1 M
designator R?, comment 5.1MΩ
RES SMD 5.1M OHM 5% 1/10W 0603; MFG PN: RC0603JR-075M1L; MFG: Yageo; Power: 0.1W; Temp Coeff: ±100ppm/°C; Op Temp: -55°C ~ 155°C; Current (max): 140 uA; Voltage (max): 714 V; Resistance: 5.1 MOhms; Digi-Key PN: 311-5.1MGRCT-ND; Height: 0.55mm; Package: 0603; Composition: Thick Film; Tolerance: 5%; Series: RC; Mounting Type: Surface Mount; ComponentLink2Description: Datasheet; ComponentLink2URL: https://www.yageo.com/upload/media/product/productsearch/datasheet/rchip/PYu-RC_Group_51_RoHS_L_11.pdf
footprint 0603 - R (from Yageo)
pins: 1, 2

## 7 - 5.6 M
designator R?, comment 5.6MΩ
RES SMD 5.6M OHM 5% 1/10W 0603; MFG PN: RC0603JR-075M6L; MFG: Yageo; Power: 0.1W; Temp Coeff: ±100ppm/°C; Op Temp: -55°C ~ 155°C; Current (max): 134 uA; Voltage (max): 748 V; Resistance: 5.6 MOhms; Digi-Key PN: 311-5.6MGRCT-ND; Height: 0.55mm; Package: 0603; Composition: Thick Film; Tolerance: 5%; Series: RC; Mounting Type: Surface Mount; ComponentLink2Description: Datasheet; ComponentLink2URL: https://www.yageo.com/upload/media/product/productsearch/datasheet/rchip/PYu-RC_Group_51_RoHS_L_11.pdf
footprint 0603 - R (from Yageo)
pins: 1, 2

## 7 - 6.2 M
designator R?, comment 6.2MΩ
RES SMD 6.2M OHM 5% 1/10W 0603; MFG PN: RC0603JR-076M2L; MFG: Yageo; Power: 0.1W; Temp Coeff: ±100ppm/°C; Op Temp: -55°C ~ 155°C; Current (max): 127 uA; Voltage (max): 787 V; Resistance: 6.2 MOhms; Digi-Key PN: 311-6.2MGRCT-ND; Height: 0.55mm; Package: 0603; Composition: Thick Film; Tolerance: 5%; Series: RC; Mounting Type: Surface Mount; ComponentLink2Description: Datasheet; ComponentLink2URL: https://www.yageo.com/upload/media/product/productsearch/datasheet/rchip/PYu-RC_Group_51_RoHS_L_11.pdf
footprint 0603 - R (from Yageo)
pins: 1, 2

## 7 - 6.8 M
designator R?, comment 6.8MΩ
RES SMD 6.8M OHM 5% 1/10W 0603; MFG PN: RC0603JR-076M8L; MFG: Yageo; Power: 0.1W; Temp Coeff: ±100ppm/°C; Op Temp: -55°C ~ 155°C; Current (max): 121 uA; Voltage (max): 825 V; Resistance: 6.8 MOhms; Digi-Key PN: 311-6.8MGRCT-ND; Height: 0.55mm; Package: 0603; Composition: Thick Film; Tolerance: 5%; Series: RC; Mounting Type: Surface Mount; ComponentLink2Description: Datasheet; ComponentLink2URL: https://www.yageo.com/upload/media/product/productsearch/datasheet/rchip/PYu-RC_Group_51_RoHS_L_11.pdf
footprint 0603 - R (from Yageo)
pins: 1, 2

## 7 - 7.5 M
designator R?, comment 7.5MΩ
RES SMD 7.5M OHM 5% 1/10W 0603; MFG PN: RC0603JR-077M5L; MFG: Yageo; Power: 0.1W; Temp Coeff: ±100ppm/°C; Op Temp: -55°C ~ 155°C; Current (max): 115 uA; Voltage (max): 866 V; Resistance: 7.5 MOhms; Digi-Key PN: YAG3331CT-ND; Height: 0.55mm; Package: 0603; Composition: Thick Film; Tolerance: 5%; Series: RC; Mounting Type: Surface Mount; ComponentLink2Description: Datasheet; ComponentLink2URL: https://www.yageo.com/upload/media/product/productsearch/datasheet/rchip/PYu-RC_Group_51_RoHS_L_11.pdf
footprint 0603 - R (from Yageo)
pins: 1, 2

## 7 - 8.2 M
designator R?, comment 8.2MΩ
RES SMD 8.2M OHM 5% 1/10W 0603; MFG PN: RC0603JR-078M2L; MFG: Yageo; Power: 0.1W; Temp Coeff: ±100ppm/°C; Op Temp: -55°C ~ 155°C; Current (max): 110 uA; Voltage (max): 906 V; Resistance: 8.2 MOhms; Digi-Key PN: 311-8.2MGRCT-ND; Height: 0.55mm; Package: 0603; Composition: Thick Film; Tolerance: 5%; Series: RC; Mounting Type: Surface Mount; ComponentLink2Description: Datasheet; ComponentLink2URL: https://www.yageo.com/upload/media/product/productsearch/datasheet/rchip/PYu-RC_Group_51_RoHS_L_11.pdf
footprint 0603 - R (from Yageo)
pins: 1, 2

## 7 - 9.1 M
designator R?, comment 9.1MΩ
RES SMD 9.1M OHM 5% 1/10W 0603; MFG PN: RC0603JR-079M1L; MFG: Yageo; Power: 0.1W; Temp Coeff: ±100ppm/°C; Op Temp: -55°C ~ 155°C; Current (max): 105 uA; Voltage (max): 954 V; Resistance: 9.1 MOhms; Digi-Key PN: YAG3332CT-ND; Height: 0.55mm; Package: 0603; Composition: Thick Film; Tolerance: 5%; Series: RC; Mounting Type: Surface Mount; ComponentLink2Description: Datasheet; ComponentLink2URL: https://www.yageo.com/upload/media/product/productsearch/datasheet/rchip/PYu-RC_Group_51_RoHS_L_11.pdf
footprint 0603 - R (from Yageo)
pins: 1, 2

## 8 - 10 M
designator R?, comment 10MΩ
RES SMD 10M OHM 5% 1/10W 0603; MFG PN: RC0603JR-0710ML; MFG: Yageo; Power: 0.1W; Temp Coeff: ±100ppm/°C; Op Temp: -55°C ~ 155°C; Current (max): 100 uA; Voltage (max): 1000 V; Resistance: 10 MOhms; Digi-Key PN: 311-10MGRCT-ND; Height: 0.55mm; Package: 0603; Composition: Thick Film; Tolerance: 5%; Series: RC; Mounting Type: Surface Mount; ComponentLink2Description: Datasheet; ComponentLink2URL: https://www.yageo.com/upload/media/product/productsearch/datasheet/rchip/PYu-RC_Group_51_RoHS_L_11.pdf
footprint 0603 - R (from Yageo)
pins: 1, 2

## 8 - 12 M
designator R?, comment 13MΩ
RES SMD 12M OHM 5% 1/10W 0603; MFG PN: RC0603JR-0712ML; MFG: Yageo; Power: 0.1W; Temp Coeff: ±100ppm/°C; Op Temp: -55°C ~ 155°C; Current (max): 91.3 uA; Voltage (max): 1095 V; Resistance: 12 MOhms; Digi-Key PN: 13-RC0603JR-0712MLCT-ND; Height: 0.55mm; Package: 0603; Composition: Thick Film; Tolerance: 5%; Series: RC; Mounting Type: Surface Mount; ComponentLink2Description: Datasheet; ComponentLink2URL: https://www.yageo.com/upload/media/product/productsearch/datasheet/rchip/PYu-RC_Group_51_RoHS_L_11.pdf
footprint 0603 - R (from Yageo)
pins: 1, 2